# Altium schematic symbol library SchematicLibrary.SchLib: 8 symbols
Pins are listed as number, name and electrical type; pins without a type are passive.

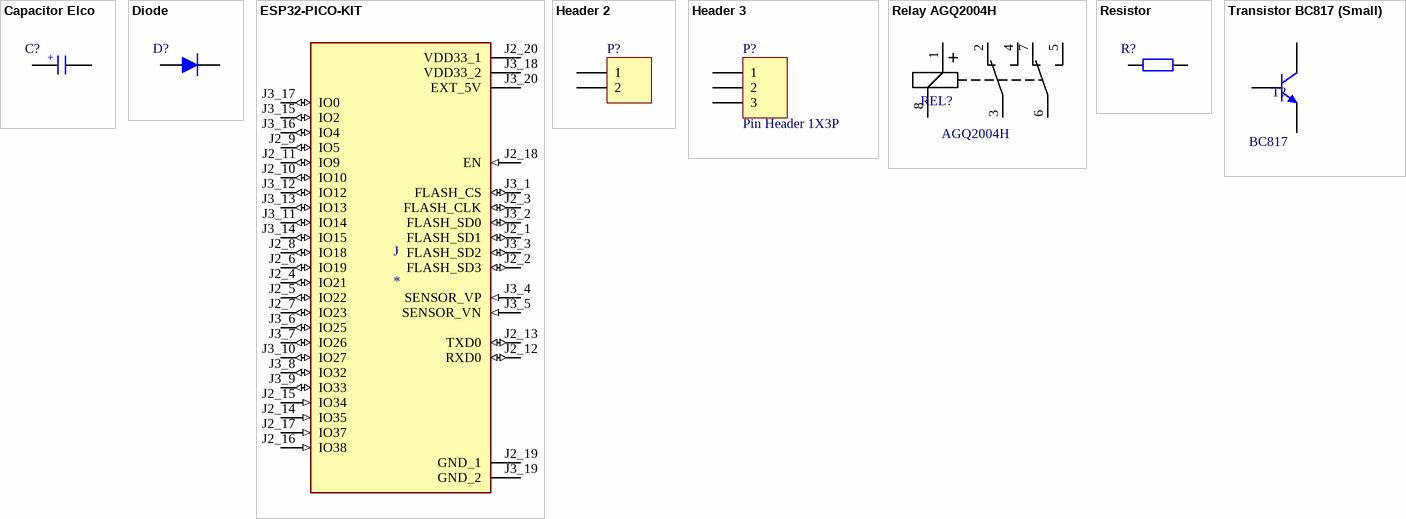
[diagram p0: symbols Capacitor Elco to Transistor BC817 (Small)]

## Capacitor Elco
designator C?
Capacitor Elco
footprint EM-Alu-Elco_6,3X8_SMD (Aluminum Electrolytic Capacitor, Body 6,60x6,60x7,70mm, IPC Low Density)
pins: 1, 2
text: +

## Diode
designator D?
Diode
footprint EM-SOD80C T1,5_SMD (MELF Diode, 2-Leads, Body 3,50x1,53mm, IPC Medium Density)
pins: 1 C, 2 A

## ESP32-PICO-KIT
designator J
- Transceiver; 802.11 b/g/n _Wi-Fi, WiFi, WLAN_, BluetoothÂ® Smart Ready 4.x Dual Mode For Use With ESP32-PICO-D4; MP: ESP32-PICO-KIT; MF: Espressif Systems; Package: None; Availability: Unavailable; Value: *; SnapEDA_Link: https://www.snapeda.com/parts/ESP32-PICO-KIT/Espressif%20Systems/view-part/2777057/?ref=snap; Price: None
footprint XCVR_ESP32-PICO-KIT
pins: J2_1 FLASH_SD1 (io), J2_2 FLASH_SD3 (io), J2_3 FLASH_CLK (io), J2_4 IO21 (io), J2_5 IO22 (io), J2_6 IO19 (io), J2_7 IO23 (io), J2_8 IO18 (io), J2_9 IO5 (io), J2_10 IO10 (io), J2_11 IO9 (io), J2_12 RXD0 (io), J2_13 TXD0 (io), J2_14 IO35 (in), J2_15 IO34 (in), J2_16 IO38 (in), J2_17 IO37 (in), J2_18 EN (in), J2_19 GND_1 (power), J2_20 VDD33_1 (power), J3_1 FLASH_CS (io), J3_2 FLASH_SD0 (io), J3_3 FLASH_SD2 (io), J3_4 SENSOR_VP (in), J3_5 SENSOR_VN (in), J3_6 IO25 (io), J3_7 IO26 (io), J3_8 IO32 (io), J3_9 IO33 (io), J3_10 IO27 (io), J3_11 IO14 (io), J3_12 IO12 (io), J3_13 IO13 (io), J3_14 IO15 (io), J3_15 IO2 (io), J3_16 IO4 (io), J3_17 IO0 (io), J3_18 VDD33_2 (power), J3_19 GND_2 (power), J3_20 EXT_5V (power)

## Header 2
designator P?, comment Pin Header 1X2P  (value not drawn)
Header 2-Pin; Manufacturer Name: Wurth Elektronik; Manufacturer Part No.: 61300211121; Type: Pin Header 1x2P; Value: Pin Header 1x2P; Supplier Unit Price 1: 0.1; Supplier 1: Wurth Elektronik; Supplier Part Number 1: 61300211121
footprint JST XH B2B-XH-A
pins: 1, 2

## Header 3
designator P?, comment Pin Header 1X3P
Header 3-Pin; Manufacturer Name: Wurth Elektronik; Manufacturer Part No.: 61300311121; Type: Pin Header 1x3P; Value: Pin Header 1x3P; Supplier Unit Price 1: 0.1; Supplier 1: Wurth Elektronik; Supplier Part Number 1: 61300311121
footprint JST XH B3B-XH-A
pins: 1, 2, 3

## Relay AGQ2004H
designator REL?, comment AGQ2004H
AGQ2004H -  Signal Relay, 4.5 VDC, DPDT, 2 A, Through Hole, Non Latching, AGQ Series; Manufacturer Name: Panasonic; Manufacturer Part No.: TX2-4.5V; Rcoil: 145R; Operating Current: 31mA; Max. Contact Current: 2A; Value: AGQ2004H; Supplier Unit Price 1: 3.97; Supplier 1: Farnell; Supplier Part Number 1: 3104813; Type: AGQ2004H
footprint THC Relay AGQ (AGQ Series - Trough Hole)
pins: 1 (power), 2 (power), 3 (power), 4 (power), 5 (power), 6 (power), 7 (power), 8 (power)

## Resistor
designator R?
Resistor
footprint EM-0603-R T0,45_SMD (Chip Resistor, 2-Leads, Body 1,55x0,85mm, IPC Medium Density)
pins: 1, 2

## Transistor BC817 (Small)
designator T?, comment BC817
BC817 -  Bipolar (BJT) Single Transistor, NPN, 45 V, 170 MHz, 300 mW, 500 mA, 100 hFE; Manufacturer Name: Nexperia; Manufacturer Part No.: BC817W,115; Gain hFE: 100; Max. Vce: 45V; Rating: 300mW; Nominal Current: 500mA; Value: BC817; Supplier Unit Price 1: 0.045; Supplier 1: Farnell; Supplier Part Number 1: 2114873; Type: BC817
footprint EM-SOT323_SMD (SOTFL, 3-Leads, Body 2,00x2,10mm, Pitch 0,65mm, IPC Medium Density)
pins: 1 B, 2 E, 3 C